# EAGLE library part SN74HC02DBR (library pie)
Quad-NOR IC, SSOP14 Package, Part Number SN74HC02DBR
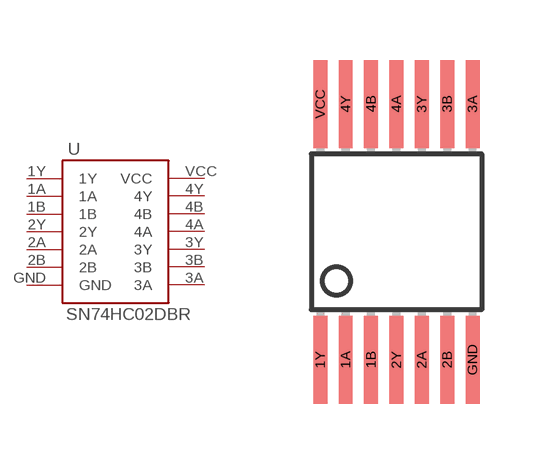
[diagram p10: symbol with the pads of QUADNOR; footprint QUADNOR]

Designator prefix -

## SN74HC02DBR (PARTNUMBER: 296-8204-1-ND)  [QUADNOR]
1A  1A
1B  1B
1Y  1Y
2A  2A
2B  2B
2Y  2Y
3A  3A
3B  3B
3Y  3Y
4A  4A
4B  4B
4Y  4Y
GND  GND
VCC  VCC

## Footprint QUADNOR (pad centres in mm)
Quad-NOR IC SSOP14 Package
smd 0.35 x 2.2: 1A -1.27,-3.2; 1B -0.635,-3.2; 1Y -1.905,-3.2; 2A 0.635,-3.2; 2B 1.27,-3.2; 2Y 0,-3.2; 3A 1.905,3.2; 3B 1.27,3.2; 3Y 0.635,3.2; 4A 0,3.2; 4B -0.635,3.2; 4Y -1.27,3.2; GND 1.905,-3.2; VCC -1.905,3.2